# Altium footprint library Piro_lib_v1.PcbLib: 4 footprints
Each footprint in its own frame and in the unit in brackets; x right, y up, seen from the top. Pads: shape width x height; smd on the part's side, far side on the other; paste and mask are expansions set on the pad; w line width, h text height; cw(c..) or ccw(c..) is an arc to the next point about the centre after c.
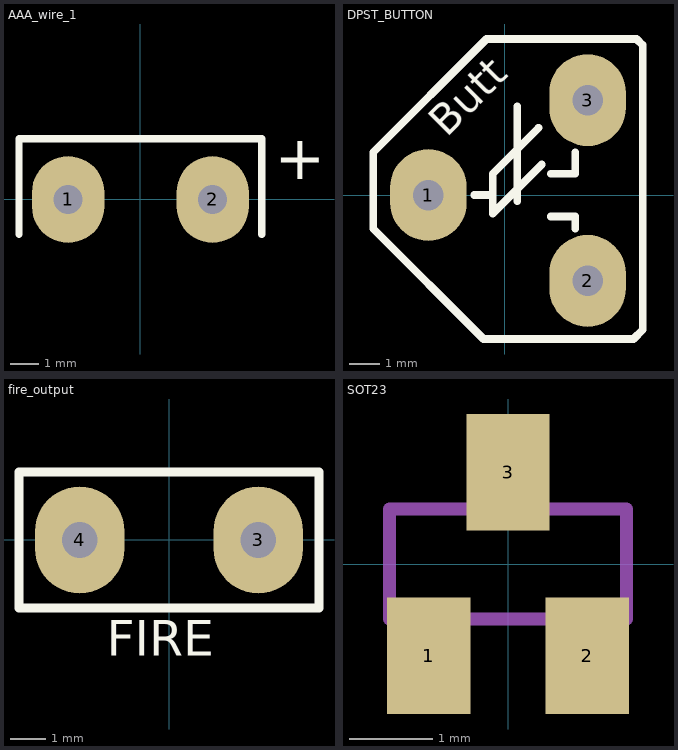
[diagram p0: the footprints below, top view; thin cyan lines are the x and y axes]

## AAA_wire_1 [mm]
pads (2):
  oval 2.5x3 hole 1: 1(-2.5,0) 2(2.5,0)
Top Overlay:
  lines w0.254: -4.2,-1.2 -4.2,2.1 4.2,2.1 4.2,-1.2
  text "+" at 4.654,0.7 h1.52

## DPST_BUTTON [mm]
pads (3):
  oval 2.5x3 hole 1: 1(-2.5,0) 2(2.7,-2.8) 3(2.7,3.1)
Top Overlay:
  lines w0.254: -4.3,0 -4.3,1.4 ; -1,0 -0.5,0 ; 0.4,-0.2 0.4,2.9 ; 1.1,2.2 -0.4,0.7 -0.4,-0.6 1.2,1 ; 1.5,-0.7 2.3,-0.7 2.3,-1.1 ; 1.5,0.7 2.3,0.7 2.3,1.4 ; -4.3,1.4 -0.6,5.1 4.3,5.1 4.5,4.9 4.5,-4.4 4.2,-4.7 -0.7,-4.7 -4.3,-1.1 -4.3,1.4
  text "Butt" at -1.9,1.859 h1

## fire_output [mm]
pads (2):
  oval 2.5x3 hole 1: 3(2.5,0) 4(-2.5,0)
Top Overlay:
  lines w0.254: -4.2,-1.9 4.2,-1.9 4.2,1.9 -4.2,1.9 -4.2,-1.9
  text "FIRE" at -1.746,-3.246 h1

## SOT23 [mm]
pads (3):
  rect 1x1.4 smd: 1(-0.95,-1.1) 2(0.95,-1.1) 3(0,1.1)
Mechanical 13:
  region: 0.229,0.711 -0.229,0.711 -0.229,1.295 0.229,1.295
  region: 1.168,-1.295 0.711,-1.295 0.711,-0.711 1.168,-0.711
  region: -0.711,-1.295 -1.168,-1.295 -1.168,-0.711 -0.711,-0.711
  lines w0.152: -1.422,-0.66 1.422,-0.66 1.422,0.66 -1.422,0.66 -1.422,-0.66